# EAGLE library part TPS5450QDDARQ1 (library EXCISS)
TPS5450-Q1 Automotive 5.5V to 36V, 5A Buck Converter Links http://www.ti.com/lit/gpn/tps5450-q1 <HTTPS_LINK> Product website <http://www.ti.com/product/TPS5450-Q1>
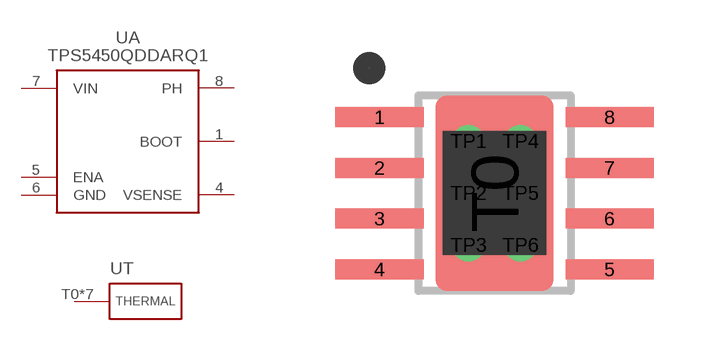
[diagram p21: symbol with the pads of DDA(R-PDSO-G8); footprint DDA(R-PDSO-G8)]

Designator prefix U; gates A=TPS5450-Q1 T=THERMAL

## TPS5450QDDARQ1  [DDA(R-PDSO-G8)]
1  A:BOOT
4  A:VSENSE
5  A:ENA
6  A:GND  pwr
7  A:VIN  pwr
8  A:PH
T0  T:GND  pwr
TP1  T:GND  pwr
TP2  T:GND  pwr
TP3  T:GND  pwr
TP4  T:GND  pwr
TP5  T:GND  pwr
TP6  T:GND  pwr

## Footprint DDA(R-PDSO-G8) (pad centres in mm)
smd 2.2 x 0.5: 1 -2.875,1.905; 2 -2.875,0.635; 3 -2.875,-0.635; 4 -2.875,-1.905; 5 2.875,-1.905; 6 2.875,-0.635; 7 2.875,0.635; 8 2.875,1.905
smd 2.95 x 4.9: T0 0,0
drill 0.3: TP1 -0.65,1.3; TP2 -0.65,0; TP3 -0.65,-1.3; TP4 0.65,1.3; TP5 0.65,0; TP6 0.65,-1.3